# EAGLE library part CON-I2C (library citysensor)
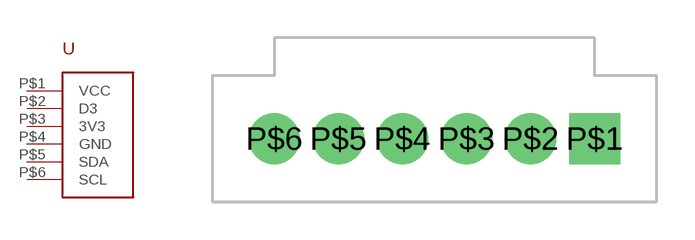
[diagram p3: symbol with the pads of MOLEX_6; footprint MOLEX_6]

Designator prefix -

## CON-I2C  [MOLEX_6]
P$1  VCC
P$2  D3
P$3  3V3
P$4  GND
P$5  SDA
P$6  SCL

## Footprint MOLEX_6 (pad centres in mm)
drill 1.016 pad 2.032 square: P$1 2.54,0
drill 1.016 pad 2.032: P$2 0,0; P$3 -2.54,0; P$4 -5.08,0; P$5 -7.62,0; P$6 -10.16,0